# Altium integrated library SINGLE_RELAYS_UP_TO_2_AMPS.IntLib: 1 symbol
Pins are listed as number, name and electrical type; pins without a type are passive.

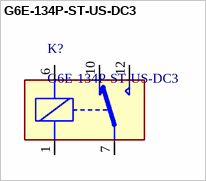
[diagram p0: symbol G6E-134P-ST-US-DC3]

## G6E-134P-ST-US-DC3
designator K?
SPDT PCB Mount Non-Latching Relay Surface Mount, 3 A, 3V dc; Manufacturer: Omron; Max Voltage Rating (AC): 250V; Max Current Rating: 3A; Max Voltage Rating (DC): 220V; Coil Current: 66.7mA; Operate Time: 5ms; Coil Power: 400mW; Coil Resistance: 45R; Relay Type: General Purpose; Power Consumption: 200mW; Current Rating: 2A; Life (Hours): 100000Hour; Supplier: Arrow Electronics; Supplier Part Number: G6E-134P-ST-US-DC3; Manufacturer Part Number: G6E-134P-ST-US-DC3; RoHS: Yes; Category: Signal Relays; Stock: 500; Pricing: 1=6.85900, 10=6.37500, 25=5.62400, 40=5.29400, 80=4.97000, 230=4.38000, 500=4.06700, 1000=3.76000 (USD); Mounting Technology: Through Hole,PCB; Pins: 5; Contact Material: Gold,Silver; Weight: 2.7g; Min Operating Temperature: -40°C; Max Operating Temperature: 70°C; Contact Current Rating: 3A; Packaging: Rail/Tube; Throw Configuration: SPDT; Termination: PC Pin; Release Time: 5ms; Coil Type: Non-Latching; Coil Voltage (DC): 3V; Series: G6E; Voltage Rating (DC): 220V; Voltage Rating (AC): 250V; Length: 16mm; Width: 10mm; Height: 8.3mm; Depth: 9.91mm; Radiation Hardening: No; RoHS Compliant: Yes; Lead Free: Lead Free; ComponentLink1URL: https://datasheet.ciiva.com/15732/g6e-15732609.pdf?src-supplier=Onlinecomponents.com; ComponentLink1Description: https://datasheet.ciiva.com/15732/g6e-15732609.pdf?src-supplier=Onlinecomponents.com; ComponentLink2URL: https://datasheet.ciiva.com/1662/en-g6e-1662386.pdf?src-supplier=Newark; ComponentLink2Description: https://datasheet.ciiva.com/1662/en-g6e-1662386.pdf?src-supplier=Newark; ComponentLink3URL: https://datasheet.ciiva.com/2416/g6e-0911-2416669.pdf?src-supplier=Digi-Key; ComponentLink3Description: https://datasheet.ciiva.com/2416/g6e-0911-2416669.pdf?src-supplier=Digi-Key; ComponentLink4URL: https://datasheet.ciiva.com/30126/g6e-0609-30126536.pdf?src-supplier=Onlinecomponents.com; ComponentLink4Description: https://datasheet.ciiva.com/30126/g6e-0609-30126536.pdf?src-supplier=Onlinecomponents.com; ComponentLink5URL: https://datasheet.ciiva.com/15185/getdatasheetpartid-244862-15185895.pdf?src-supplier=Verical; ComponentLink5Description: https://datasheet.ciiva.com/15185/getdatasheetpartid-244862-15185895.pdf?src-supplier=Verical; ComponentLink6URL: https://datasheet.ciiva.com/1525/en-g6e-1525302.pdf?src-supplier=Element14; ComponentLink6Description: https://datasheet.ciiva.com/1525/en-g6e-1525302.pdf?src-supplier=Element14
footprint FP-G6E-134P-ST-US-DC3-MFG (SPDT PCB Mount Non-Latching Relay Surface Mount, 3 A, 3V dc)
pins: 1, 6, 7, 10, 12